# EAGLE library part BAT54CV (library ld-components)
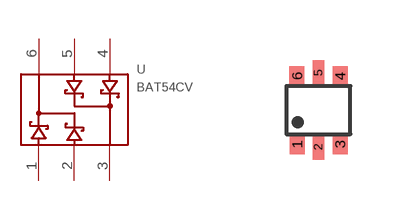
[diagram p12: symbol with the pads of SOT666; footprint SOT666]

Designator prefix -

## BAT54CV  [SOT666]
1  P$1
2  P$2
3  P$3
4  P$4
5  P$5
6  P$6

## Footprint SOT666 (pad centres in mm)
SOT 666 Reflow soldering foorprint Source: Philips - BAS70_1PS7XSB70_SER_8.pdf
smd 0.375 x 0.5: 1 -0.537,-0.85; 3 0.538,-0.85; 4 0.538,0.849; 6 -0.538,0.85
smd 0.3 x 0.65: 2 0,-0.923; 5 0,0.925